# Altium footprint library TSOP (0.4mm Pitch).PcbLib: 16 footprints
Each footprint in its own frame and in the unit in brackets; x right, y up, seen from the top. Pads: shape width x height; smd on the part's side, far side on the other; paste and mask are expansions set on the pad; w line width, h text height; cw(c..) or ccw(c..) is an arc to the next point about the centre after c.
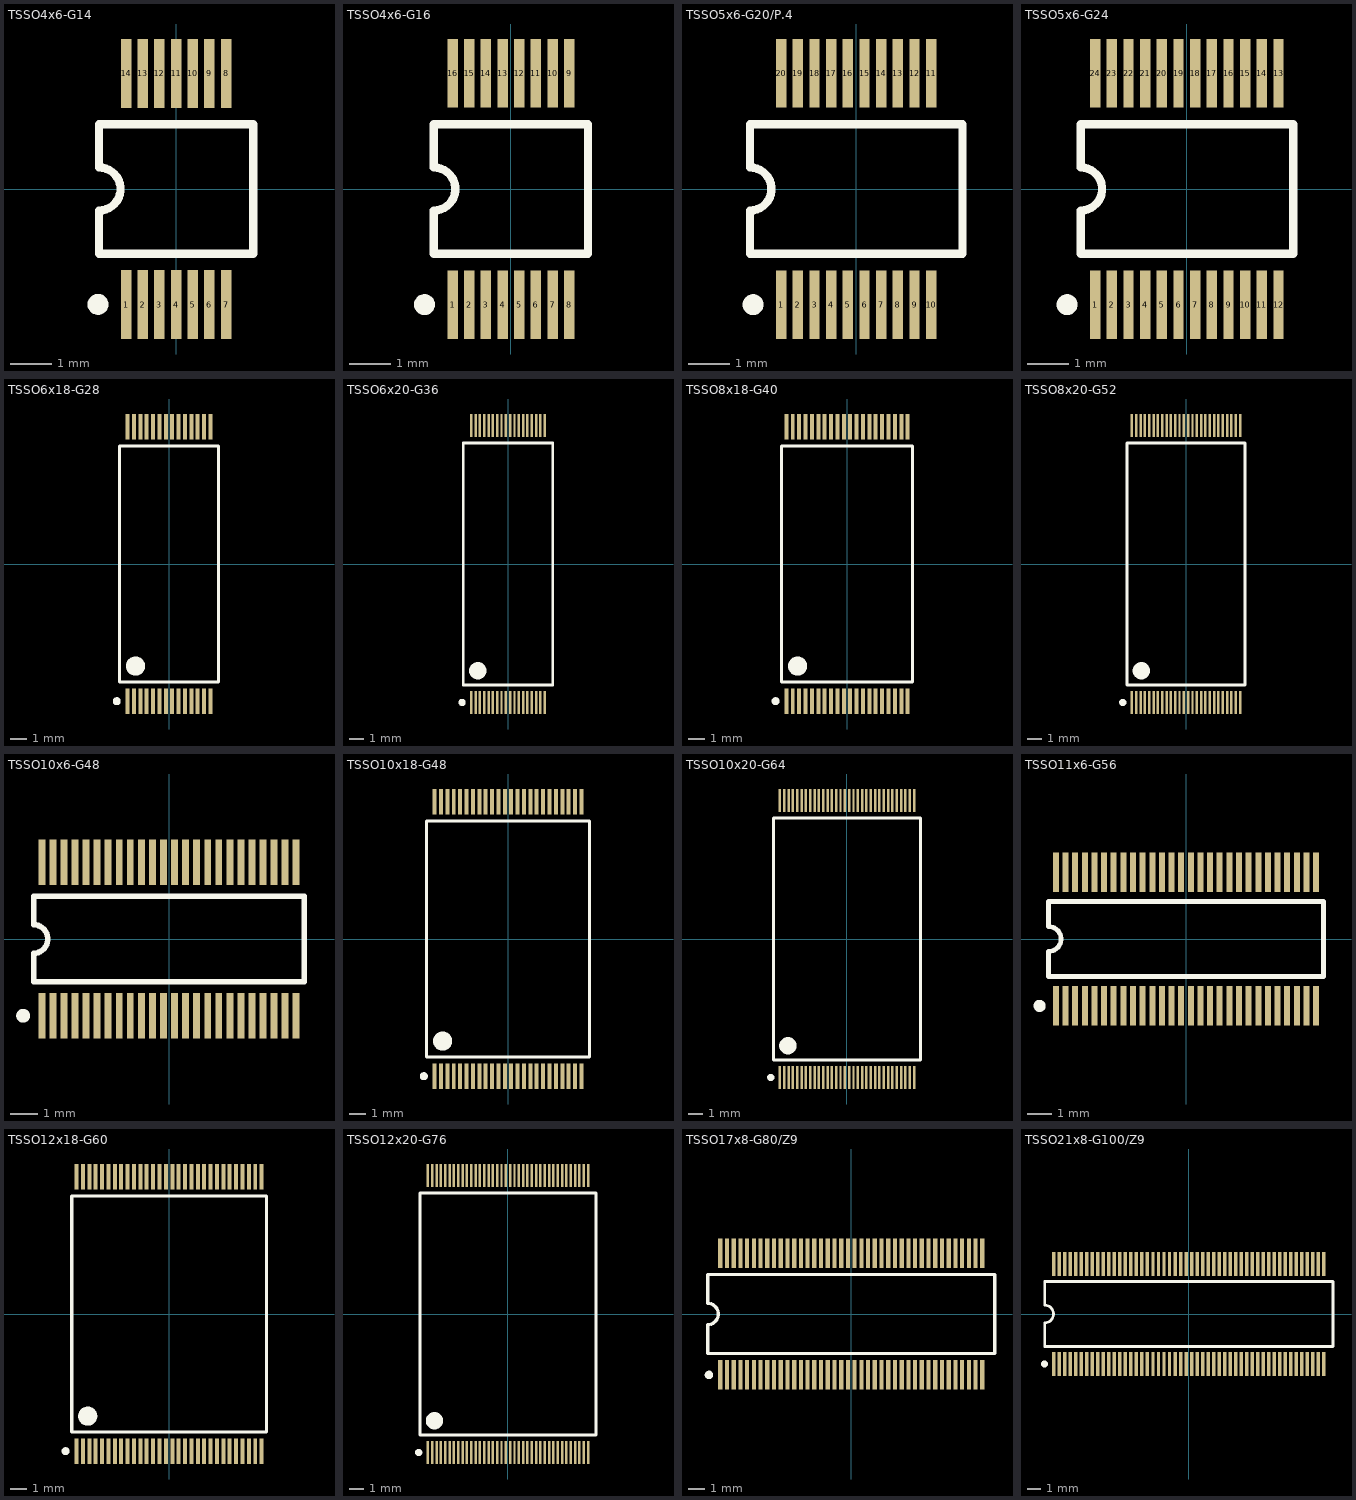
[diagram p0: the footprints below, top view; thin cyan lines are the x and y axes]

## TSSO4x6-G14 [mm] "Shrink Small Outline; 14 Leads; Body Width 4.4 mm; Pitch 0.4 mm"
height 1.2
pads (14):
  rect 0.25x1.65 smd: 1(-1.2,-2.775) 2(-0.8,-2.775) 3(-0.4,-2.775) 4(0,-2.775) 5(0.4,-2.775) 6(0.8,-2.775) 7(1.2,-2.775) 8(1.2,2.775) 9(0.8,2.775) 10(0.4,2.775) 11(0,2.775) 12(-0.4,2.775) 13(-0.8,2.775) 14(-1.2,2.775)
Top Overlay:
  circle w0.25: c-1.875,-2.769 r0.125
  lines w0.2: -1.85,-1.55 -1.85,-0.517 ccw(c-1.85,0) -1.85,0.517 -1.85,1.55 1.85,1.55 1.85,-1.55 -1.85,-1.55

## TSSO4x6-G16 [mm] "Shrink Small Outline; 16 Leads; Body Width 4.4 mm; Pitch 0.4 mm"
height 1.2
pads (16):
  rect 0.25x1.65 smd: 1(-1.4,-2.775) 2(-1,-2.775) 3(-0.6,-2.775) 4(-0.2,-2.775) 5(0.2,-2.775) 6(0.6,-2.775) 7(1,-2.775) 8(1.4,-2.775) 9(1.4,2.775) 10(1,2.775) 11(0.6,2.775) 12(0.2,2.775) 13(-0.2,2.775) 14(-0.6,2.775) 15(-1,2.775) 16(-1.4,2.775)
Top Overlay:
  circle w0.25: c-2.075,-2.775 r0.125
  lines w0.2: -1.85,-1.55 -1.85,-0.517 ccw(c-1.85,0) -1.85,0.517 -1.85,1.55 1.85,1.55 1.85,-1.55 -1.85,-1.55

## TSSO5x6-G20/P.4 [mm] "Shrink Small Outline; 20 Leads; Body Width 4.4 mm; Pitch 0.4 mm"
height 1.2
pads (20):
  rect 0.25x1.65 smd: 1(-1.8,-2.775) 2(-1.4,-2.775) 3(-1,-2.775) 4(-0.6,-2.775) 5(-0.2,-2.775) 6(0.2,-2.775) 7(0.6,-2.775) 8(1,-2.775) 9(1.4,-2.775) 10(1.8,-2.775) 11(1.8,2.775) 12(1.4,2.775) 13(1,2.775) 14(0.6,2.775) 15(0.2,2.775) 16(-0.2,2.775) 17(-0.6,2.775) 18(-1,2.775) 19(-1.4,2.775) 20(-1.8,2.775)
Top Overlay:
  circle w0.25: c-2.475,-2.775 r0.125
  lines w0.2: -2.55,-1.55 -2.55,-0.517 ccw(c-2.55,0) -2.55,0.517 -2.55,1.55 2.55,1.55 2.55,-1.55 -2.55,-1.55

## TSSO5x6-G24 [mm] "Shrink Small Outline; 24 Leads; Body Width 4.4 mm; Pitch 0.4 mm"
height 1.2
pads (24):
  rect 0.25x1.65 smd: 1(-2.2,-2.775) 2(-1.8,-2.775) 3(-1.4,-2.775) 4(-1,-2.775) 5(-0.6,-2.775) 6(-0.2,-2.775) 7(0.2,-2.775) 8(0.6,-2.775) 9(1,-2.775) 10(1.4,-2.775) 11(1.8,-2.775) 12(2.2,-2.775) 13(2.2,2.775) 14(1.8,2.775) 15(1.4,2.775) 16(1,2.775) 17(0.6,2.775) 18(0.2,2.775) 19(-0.2,2.775) 20(-0.6,2.775) 21(-1,2.775) 22(-1.4,2.775) 23(-1.8,2.775) 24(-2.2,2.775)
Top Overlay:
  circle w0.25: c-2.875,-2.775 r0.125
  lines w0.2: -2.55,-1.55 2.55,-1.55 2.55,1.55 -2.55,1.55 -2.55,0.517 cw(c-2.55,0) -2.55,-0.517 -2.55,-1.55

## TSSO6x18-G28 [mm] "Shrink Small Outline; 28 Leads; Body Width 16.4 mm; Pitch 0.4 mm"
height 1.27
pads (28):
  rect 0.25x1.6 smd: 1(-2.6,-8.6) 2(-2.2,-8.6) 3(-1.8,-8.6) 4(-1.4,-8.6) 5(-1,-8.6) 6(-0.6,-8.6) 7(-0.2,-8.6) 8(0.2,-8.6) 9(0.6,-8.6) 10(1,-8.6) 11(1.4,-8.6) 12(1.8,-8.6) 13(2.2,-8.6) 14(2.6,-8.6) 15(2.6,8.6) 16(2.2,8.6) 17(1.8,8.6) 18(1.4,8.6) 19(1,8.6) 20(0.6,8.6) 21(0.2,8.6) 22(-0.2,8.6) 23(-0.6,8.6) 24(-1,8.6) 25(-1.4,8.6) 26(-1.8,8.6) 27(-2.2,8.6) 28(-2.6,8.6)
Top Overlay:
  circle w0.25: c-3.275,-8.6 r0.125
  circle w0.6: c-2.1,-6.4 r0.3
  lines w0.2: -3.1,-7.4 -3.1,-0.635 -3.1,7.4 3.1,7.4 3.1,-7.4 -3.1,-7.4

## TSSO6x20-G36 [mm] "Shrink Small Outline; 36 Leads; Body Width 18.4 mm; Pitch 0.3 mm"
height 1.27
pads (36):
  rect 0.17x1.6 smd: 1(-2.55,-9.6) 2(-2.25,-9.6) 3(-1.95,-9.6) 4(-1.65,-9.6) 5(-1.35,-9.6) 6(-1.05,-9.6) 7(-0.75,-9.6) 8(-0.45,-9.6) 9(-0.15,-9.6) 10(0.15,-9.6) 11(0.45,-9.6) 12(0.75,-9.6) 13(1.05,-9.6) 14(1.35,-9.6) 15(1.65,-9.6) 16(1.95,-9.6) 17(2.25,-9.6) 18(2.55,-9.6) 19(2.55,9.6) 20(2.25,9.6) 21(1.95,9.6) 22(1.65,9.6) 23(1.35,9.6) 24(1.05,9.6) 25(0.75,9.6) 26(0.45,9.6) 27(0.15,9.6) 28(-0.15,9.6) 29(-0.45,9.6) 30(-0.75,9.6) 31(-1.05,9.6) 32(-1.35,9.6) 33(-1.65,9.6) 34(-1.95,9.6) 35(-2.25,9.6) 36(-2.55,9.6)
Top Overlay:
  circle w0.6: c-2.1,-7.4 r0.3
  circle w0.25: c-3.185,-9.6 r0.125
  lines w0.2: -3.1,-8.4 3.1,-8.4 3.1,8.4 -3.1,8.4 -3.1,-0.635 -3.1,-8.4

## TSSO8x18-G40 [mm] "Shrink Small Outline; 40 Leads; Body Width 16.4 mm; Pitch 0.4 mm"
height 1.27
pads (40):
  rect 0.25x1.6 smd: 1(-3.8,-8.6) 2(-3.4,-8.6) 3(-3,-8.6) 4(-2.6,-8.6) 5(-2.2,-8.6) 6(-1.8,-8.6) 7(-1.4,-8.6) 8(-1,-8.6) 9(-0.6,-8.6) 10(-0.2,-8.6) 11(0.2,-8.6) 12(0.6,-8.6) 13(1,-8.6) 14(1.4,-8.6) 15(1.8,-8.6) 16(2.2,-8.6) 17(2.6,-8.6) 18(3,-8.6) 19(3.4,-8.6) 20(3.8,-8.6) 21(3.8,8.6) 22(3.4,8.6) 23(3,8.6) 24(2.6,8.6) 25(2.2,8.6) 26(1.8,8.6) 27(1.4,8.6) 28(1,8.6) 29(0.6,8.6) 30(0.2,8.6) 31(-0.2,8.6) 32(-0.6,8.6) 33(-1,8.6) 34(-1.4,8.6) 35(-1.8,8.6) 36(-2.2,8.6) 37(-2.6,8.6) 38(-3,8.6) 39(-3.4,8.6) 40(-3.8,8.6)
Top Overlay:
  circle w0.6: c-3.1,-6.4 r0.3
  circle w0.25: c-4.475,-8.6 r0.125
  lines w0.2: -4.1,-7.4 4.1,-7.4 4.1,7.4 -4.1,7.4 -4.1,-0.635 -4.1,-7.4

## TSSO8x20-G52 [mm] "Shrink Small Outline; 52 Leads; Body Width 18.4 mm; Pitch 0.3 mm"
height 1.27
pads (52):
  rect 0.17x1.6 smd: 1(-3.75,-9.6) 2(-3.45,-9.6) 3(-3.15,-9.6) 4(-2.85,-9.6) 5(-2.55,-9.6) 6(-2.25,-9.6) 7(-1.95,-9.6) 8(-1.65,-9.6) 9(-1.35,-9.6) 10(-1.05,-9.6) 11(-0.75,-9.6) 12(-0.45,-9.6) 13(-0.15,-9.6) 14(0.15,-9.6) 15(0.45,-9.6) 16(0.75,-9.6) 17(1.05,-9.6) 18(1.35,-9.6) 19(1.65,-9.6) 20(1.95,-9.6) 21(2.25,-9.6) 22(2.55,-9.6) 23(2.85,-9.6) 24(3.15,-9.6) 25(3.45,-9.6) 26(3.75,-9.6) 27(3.75,9.6) 28(3.45,9.6) 29(3.15,9.6) 30(2.85,9.6) 31(2.55,9.6) 32(2.25,9.6) 33(1.95,9.6) 34(1.65,9.6) 35(1.35,9.6) 36(1.05,9.6) 37(0.75,9.6) 38(0.45,9.6) 39(0.15,9.6) 40(-0.15,9.6) 41(-0.45,9.6) 42(-0.75,9.6) 43(-1.05,9.6) 44(-1.35,9.6) 45(-1.65,9.6) 46(-1.95,9.6) 47(-2.25,9.6) 48(-2.55,9.6) 49(-2.85,9.6) 50(-3.15,9.6) 51(-3.45,9.6) 52(-3.75,9.6)
Top Overlay:
  circle w0.25: c-4.385,-9.6 r0.125
  circle w0.6: c-3.1,-7.4 r0.3
  lines w0.2: -4.1,-8.4 -4.1,-0.635 -4.1,8.4 4.1,8.4 4.1,-8.4 -4.1,-8.4

## TSSO10x6-G48 [mm] "Shrink Small Outline; 48 Leads; Body Width 4.4 mm; Pitch 0.4 mm"
height 1.2
pads (48):
  rect 0.25x1.65 smd: 1(-4.6,-2.775) 2(-4.2,-2.775) 3(-3.8,-2.775) 4(-3.4,-2.775) 5(-3,-2.775) 6(-2.6,-2.775) 7(-2.2,-2.775) 8(-1.8,-2.775) 9(-1.4,-2.775) 10(-1,-2.775) 11(-0.6,-2.775) 12(-0.2,-2.775) 13(0.2,-2.775) 14(0.6,-2.775) 15(1,-2.775) 16(1.4,-2.775) 17(1.8,-2.775) 18(2.2,-2.775) 19(2.6,-2.775) 20(3,-2.775) 21(3.4,-2.775) 22(3.8,-2.775) 23(4.2,-2.775) 24(4.6,-2.775) 25(4.6,2.775) 26(4.2,2.775) 27(3.8,2.775) 28(3.4,2.775) 29(3,2.775) 30(2.6,2.775) 31(2.2,2.775) 32(1.8,2.775) 33(1.4,2.775) 34(1,2.775) 35(0.6,2.775) 36(0.2,2.775) 37(-0.2,2.775) 38(-0.6,2.775) 39(-1,2.775) 40(-1.4,2.775) 41(-1.8,2.775) 42(-2.2,2.775) 43(-2.6,2.775) 44(-3,2.775) 45(-3.4,2.775) 46(-3.8,2.775) 47(-4.2,2.775) 48(-4.6,2.775)
Top Overlay:
  circle w0.25: c-5.275,-2.775 r0.125
  lines w0.2: -4.9,-1.55 4.9,-1.55 4.9,1.55 -4.9,1.55 -4.9,0.517 cw(c-4.9,0) -4.9,-0.517 -4.9,-1.55

## TSSO10x18-G48 [mm] "Shrink Small Outline; 48 Leads; Body Width 16.4 mm; Pitch 0.4 mm"
height 1.27
pads (48):
  rect 0.25x1.6 smd: 1(-4.6,-8.6) 2(-4.2,-8.6) 3(-3.8,-8.6) 4(-3.4,-8.6) 5(-3,-8.6) 6(-2.6,-8.6) 7(-2.2,-8.6) 8(-1.8,-8.6) 9(-1.4,-8.6) 10(-1,-8.6) 11(-0.6,-8.6) 12(-0.2,-8.6) 13(0.2,-8.6) 14(0.6,-8.6) 15(1,-8.6) 16(1.4,-8.6) 17(1.8,-8.6) 18(2.2,-8.6) 19(2.6,-8.6) 20(3,-8.6) 21(3.4,-8.6) 22(3.8,-8.6) 23(4.2,-8.6) 24(4.6,-8.6) 25(4.6,8.6) 26(4.2,8.6) 27(3.8,8.6) 28(3.4,8.6) 29(3,8.6) 30(2.6,8.6) 31(2.2,8.6) 32(1.8,8.6) 33(1.4,8.6) 34(1,8.6) 35(0.6,8.6) 36(0.2,8.6) 37(-0.2,8.6) 38(-0.6,8.6) 39(-1,8.6) 40(-1.4,8.6) 41(-1.8,8.6) 42(-2.2,8.6) 43(-2.6,8.6) 44(-3,8.6) 45(-3.4,8.6) 46(-3.8,8.6) 47(-4.2,8.6) 48(-4.6,8.6)
Top Overlay:
  circle w0.6: c-4.1,-6.4 r0.3
  circle w0.25: c-5.275,-8.6 r0.125
  lines w0.2: -5.1,-7.4 5.1,-7.4 5.1,7.4 -5.1,7.4 -5.1,-0.635 -5.1,-7.4

## TSSO10x20-G64 [mm] "Shrink Small Outline; 64 Leads; Body Width 18.4 mm; Pitch 0.3 mm"
height 1.27
pads (64):
  rect 0.17x1.6 smd: 1(-4.65,-9.6) 2(-4.35,-9.6) 3(-4.05,-9.6) 4(-3.75,-9.6) 5(-3.45,-9.6) 6(-3.15,-9.6) 7(-2.85,-9.6) 8(-2.55,-9.6) 9(-2.25,-9.6) 10(-1.95,-9.6) 11(-1.65,-9.6) 12(-1.35,-9.6) 13(-1.05,-9.6) 14(-0.75,-9.6) 15(-0.45,-9.6) 16(-0.15,-9.6) 17(0.15,-9.6) 18(0.45,-9.6) 19(0.75,-9.6) 20(1.05,-9.6) 21(1.35,-9.6) 22(1.65,-9.6) 23(1.95,-9.6) 24(2.25,-9.6) 25(2.55,-9.6) 26(2.85,-9.6) 27(3.15,-9.6) 28(3.45,-9.6) 29(3.75,-9.6) 30(4.05,-9.6) 31(4.35,-9.6) 32(4.65,-9.6) 33(4.65,9.6) 34(4.35,9.6) 35(4.05,9.6) 36(3.75,9.6) 37(3.45,9.6) 38(3.15,9.6) 39(2.85,9.6) 40(2.55,9.6) 41(2.25,9.6) 42(1.95,9.6) 43(1.65,9.6) 44(1.35,9.6) 45(1.05,9.6) 46(0.75,9.6) 47(0.45,9.6) 48(0.15,9.6) 49(-0.15,9.6) 50(-0.45,9.6) 51(-0.75,9.6) 52(-1.05,9.6) 53(-1.35,9.6) 54(-1.65,9.6) 55(-1.95,9.6) 56(-2.25,9.6) 57(-2.55,9.6) 58(-2.85,9.6) 59(-3.15,9.6) 60(-3.45,9.6) 61(-3.75,9.6) 62(-4.05,9.6) 63(-4.35,9.6) 64(-4.65,9.6)
Top Overlay:
  circle w0.6: c-4.1,-7.4 r0.3
  circle w0.25: c-5.285,-9.6 r0.125
  lines w0.2: -5.1,-8.4 5.1,-8.4 5.1,8.4 -5.1,8.4 -5.1,-0.635 -5.1,-8.4

## TSSO11x6-G56 [mm] "Shrink Small Outline; 56 Leads; Body Width 4.4 mm; Pitch 0.4 mm"
height 1.2
pads (56):
  rect 0.25x1.65 smd: 1(-5.4,-2.775) 2(-5,-2.775) 3(-4.6,-2.775) 4(-4.2,-2.775) 5(-3.8,-2.775) 6(-3.4,-2.775) 7(-3,-2.775) 8(-2.6,-2.775) 9(-2.2,-2.775) 10(-1.8,-2.775) 11(-1.4,-2.775) 12(-1,-2.775) 13(-0.6,-2.775) 14(-0.2,-2.775) 15(0.2,-2.775) 16(0.6,-2.775) 17(1,-2.775) 18(1.4,-2.775) 19(1.8,-2.775) 20(2.2,-2.775) 21(2.6,-2.775) 22(3,-2.775) 23(3.4,-2.775) 24(3.8,-2.775) 25(4.2,-2.775) 26(4.6,-2.775) 27(5,-2.775) 28(5.4,-2.775) 29(5.4,2.775) 30(5,2.775) 31(4.6,2.775) 32(4.2,2.775) 33(3.8,2.775) 34(3.4,2.775) 35(3,2.775) 36(2.6,2.775) 37(2.2,2.775) 38(1.8,2.775) 39(1.4,2.775) 40(1,2.775) 41(0.6,2.775) 42(0.2,2.775) 43(-0.2,2.775) 44(-0.6,2.775) 45(-1,2.775) 46(-1.4,2.775) 47(-1.8,2.775) 48(-2.2,2.775) 49(-2.6,2.775) 50(-3,2.775) 51(-3.4,2.775) 52(-3.8,2.775) 53(-4.2,2.775) 54(-4.6,2.775) 55(-5,2.775) 56(-5.4,2.775)
Top Overlay:
  circle w0.25: c-6.075,-2.775 r0.125
  lines w0.2: -5.7,-1.55 5.7,-1.55 5.7,1.55 -5.7,1.55 -5.7,0.517 cw(c-5.7,0) -5.7,-0.517 -5.7,-1.55

## TSSO12x18-G60 [mm] "Shrink Small Outline; 60 Leads; Body Width 16.4 mm; Pitch 0.4 mm"
height 1.27
pads (60):
  rect 0.25x1.6 smd: 1(-5.8,-8.6) 2(-5.4,-8.6) 3(-5,-8.6) 4(-4.6,-8.6) 5(-4.2,-8.6) 6(-3.8,-8.6) 7(-3.4,-8.6) 8(-3,-8.6) 9(-2.6,-8.6) 10(-2.2,-8.6) 11(-1.8,-8.6) 12(-1.4,-8.6) 13(-1,-8.6) 14(-0.6,-8.6) 15(-0.2,-8.6) 16(0.2,-8.6) 17(0.6,-8.6) 18(1,-8.6) 19(1.4,-8.6) 20(1.8,-8.6) 21(2.2,-8.6) 22(2.6,-8.6) 23(3,-8.6) 24(3.4,-8.6) 25(3.8,-8.6) 26(4.2,-8.6) 27(4.6,-8.6) 28(5,-8.6) 29(5.4,-8.6) 30(5.8,-8.6) 31(5.8,8.6) 32(5.4,8.6) 33(5,8.6) 34(4.6,8.6) 35(4.2,8.6) 36(3.8,8.6) 37(3.4,8.6) 38(3,8.6) 39(2.6,8.6) 40(2.2,8.6) 41(1.8,8.6) 42(1.4,8.6) 43(1,8.6) 44(0.6,8.6) 45(0.2,8.6) 46(-0.2,8.6) 47(-0.6,8.6) 48(-1,8.6) 49(-1.4,8.6) 50(-1.8,8.6) 51(-2.2,8.6) 52(-2.6,8.6) 53(-3,8.6) 54(-3.4,8.6) 55(-3.8,8.6) 56(-4.2,8.6) 57(-4.6,8.6) 58(-5,8.6) 59(-5.4,8.6) 60(-5.8,8.6)
Top Overlay:
  circle w0.6: c-5.1,-6.4 r0.3
  circle w0.25: c-6.485,-8.6 r0.125
  lines w0.2: -6.1,-7.4 6.1,-7.4 6.1,7.4 -6.1,7.4 -6.1,-0.635 -6.1,-7.4

## TSSO12x20-G76 [mm] "Shrink Small Outline; 76 Leads; Body Width 18.4 mm; Pitch 0.3 mm"
height 1.27
pads (76):
  rect 0.17x1.6 smd: 1(-5.55,-9.6) 2(-5.25,-9.6) 3(-4.95,-9.6) 4(-4.65,-9.6) 5(-4.35,-9.6) 6(-4.05,-9.6) 7(-3.75,-9.6) 8(-3.45,-9.6) 9(-3.15,-9.6) 10(-2.85,-9.6) 11(-2.55,-9.6) 12(-2.25,-9.6) 13(-1.95,-9.6) 14(-1.65,-9.6) 15(-1.35,-9.6) 16(-1.05,-9.6) 17(-0.75,-9.6) 18(-0.45,-9.6) 19(-0.15,-9.6) 20(0.15,-9.6) 21(0.45,-9.6) 22(0.75,-9.6) 23(1.05,-9.6) 24(1.35,-9.6) 25(1.65,-9.6) 26(1.95,-9.6) 27(2.25,-9.6) 28(2.55,-9.6) 29(2.85,-9.6) 30(3.15,-9.6) 31(3.45,-9.6) 32(3.75,-9.6) 33(4.05,-9.6) 34(4.35,-9.6) 35(4.65,-9.6) 36(4.95,-9.6) 37(5.25,-9.6) 38(5.55,-9.6) 39(5.55,9.6) 40(5.25,9.6) 41(4.95,9.6) 42(4.65,9.6) 43(4.35,9.6) 44(4.05,9.6) 45(3.75,9.6) 46(3.45,9.6) 47(3.15,9.6) 48(2.85,9.6) 49(2.55,9.6) 50(2.25,9.6) 51(1.95,9.6) 52(1.65,9.6) 53(1.35,9.6) 54(1.05,9.6) 55(0.75,9.6) 56(0.45,9.6) 57(0.15,9.6) 58(-0.15,9.6) 59(-0.45,9.6) 60(-0.75,9.6) 61(-1.05,9.6) 62(-1.35,9.6) 63(-1.65,9.6) 64(-1.95,9.6) 65(-2.25,9.6) 66(-2.55,9.6) 67(-2.85,9.6) 68(-3.15,9.6) 69(-3.45,9.6) 70(-3.75,9.6) 71(-4.05,9.6) 72(-4.35,9.6) 73(-4.65,9.6) 74(-4.95,9.6) 75(-5.25,9.6) 76(-5.55,9.6)
Top Overlay:
  circle w0.25: c-6.195,-9.6 r0.125
  circle w0.6: c-5.1,-7.4 r0.3
  lines w0.2: -6.1,-8.4 -6.1,-0.635 -6.1,8.4 6.1,8.4 6.1,-8.4 -6.1,-8.4

## TSSO17x8-G80/Z9 [mm] "Shrink Small Outline; 80 Leads; Body Width 6.1 mm; Pitch 0.4 mm"
height 1.2
pads (80):
  rect 0.25x1.75 smd: 1(-7.8,-3.625) 2(-7.4,-3.625) 3(-7,-3.625) 4(-6.6,-3.625) 5(-6.2,-3.625) 6(-5.8,-3.625) 7(-5.4,-3.625) 8(-5,-3.625) 9(-4.6,-3.625) 10(-4.2,-3.625) 11(-3.8,-3.625) 12(-3.4,-3.625) 13(-3,-3.625) 14(-2.6,-3.625) 15(-2.2,-3.625) 16(-1.8,-3.625) 17(-1.4,-3.625) 18(-1,-3.625) 19(-0.6,-3.625) 20(-0.2,-3.625) 21(0.2,-3.625) 22(0.6,-3.625) 23(1,-3.625) 24(1.4,-3.625) 25(1.8,-3.625) 26(2.2,-3.625) 27(2.6,-3.625) 28(3,-3.625) 29(3.4,-3.625) 30(3.8,-3.625) 31(4.2,-3.625) 32(4.6,-3.625) 33(5,-3.625) 34(5.4,-3.625) 35(5.8,-3.625) 36(6.2,-3.625) 37(6.6,-3.625) 38(7,-3.625) 39(7.4,-3.625) 40(7.8,-3.625) 41(7.8,3.625) 42(7.4,3.625) 43(7,3.625) 44(6.6,3.625) 45(6.2,3.625) 46(5.8,3.625) 47(5.4,3.625) 48(5,3.625) 49(4.6,3.625) 50(4.2,3.625) 51(3.8,3.625) 52(3.4,3.625) 53(3,3.625) 54(2.6,3.625) 55(2.2,3.625) 56(1.8,3.625) 57(1.4,3.625) 58(1,3.625) 59(0.6,3.625) 60(0.2,3.625) 61(-0.2,3.625) 62(-0.6,3.625) 63(-1,3.625) 64(-1.4,3.625) 65(-1.8,3.625) 66(-2.2,3.625) 67(-2.6,3.625) 68(-3,3.625) 69(-3.4,3.625) 70(-3.8,3.625) 71(-4.2,3.625) 72(-4.6,3.625) 73(-5,3.625) 74(-5.4,3.625) 75(-5.8,3.625) 76(-6.2,3.625) 77(-6.6,3.625) 78(-7,3.625) 79(-7.4,3.625) 80(-7.8,3.625)
Top Overlay:
  circle w0.25: c-8.475,-3.625 r0.125
  lines w0.2: -8.55,-2.35 -8.55,-0.635 ccw(c-8.55,0) -8.55,0.635 -8.55,2.35 8.55,2.35 8.55,-2.35 -8.55,-2.35

## TSSO21x8-G100/Z9 [mm] "Shrink Small Outline; 100 Leads; Body Width 6.1 mm; Pitch 0.4 mm"
height 1.2
pads (100):
  rect 0.25x1.75 smd: 1(-9.8,-3.625) 2(-9.4,-3.625) 3(-9,-3.625) 4(-8.6,-3.625) 5(-8.2,-3.625) 6(-7.8,-3.625) 7(-7.4,-3.625) 8(-7,-3.625) 9(-6.6,-3.625) 10(-6.2,-3.625) 11(-5.8,-3.625) 12(-5.4,-3.625) 13(-5,-3.625) 14(-4.6,-3.625) 15(-4.2,-3.625) 16(-3.8,-3.625) 17(-3.4,-3.625) 18(-3,-3.625) 19(-2.6,-3.625) 20(-2.2,-3.625) 21(-1.8,-3.625) 22(-1.4,-3.625) 23(-1,-3.625) 24(-0.6,-3.625) 25(-0.2,-3.625) 26(0.2,-3.625) 27(0.6,-3.625) 28(1,-3.625) 29(1.4,-3.625) 30(1.8,-3.625) 31(2.2,-3.625) 32(2.6,-3.625) 33(3,-3.625) 34(3.4,-3.625) 35(3.8,-3.625) 36(4.2,-3.625) 37(4.6,-3.625) 38(5,-3.625) 39(5.4,-3.625) 40(5.8,-3.625) 41(6.2,-3.625) 42(6.6,-3.625) 43(7,-3.625) 44(7.4,-3.625) 45(7.8,-3.625) 46(8.2,-3.625) 47(8.6,-3.625) 48(9,-3.625) 49(9.4,-3.625) 50(9.8,-3.625) 51(9.8,3.625) 52(9.4,3.625) 53(9,3.625) 54(8.6,3.625) 55(8.2,3.625) 56(7.8,3.625) 57(7.4,3.625) 58(7,3.625) 59(6.6,3.625) 60(6.2,3.625) 61(5.8,3.625) 62(5.4,3.625) 63(5,3.625) 64(4.6,3.625) 65(4.2,3.625) 66(3.8,3.625) 67(3.4,3.625) 68(3,3.625) 69(2.6,3.625) 70(2.2,3.625) 71(1.8,3.625) 72(1.4,3.625) 73(1,3.625) 74(0.6,3.625) 75(0.2,3.625) 76(-0.2,3.625) 77(-0.6,3.625) 78(-1,3.625) 79(-1.4,3.625) 80(-1.8,3.625) 81(-2.2,3.625) 82(-2.6,3.625) 83(-3,3.625) 84(-3.4,3.625) 85(-3.8,3.625) 86(-4.2,3.625) 87(-4.6,3.625) 88(-5,3.625) 89(-5.4,3.625) 90(-5.8,3.625) 91(-6.2,3.625) 92(-6.6,3.625) 93(-7,3.625) 94(-7.4,3.625) 95(-7.8,3.625) 96(-8.2,3.625) 97(-8.6,3.625) 98(-9,3.625) 99(-9.4,3.625) 100(-9.8,3.625)
Top Overlay:
  circle w0.25: c-10.475,-3.625 r0.125
  lines w0.2: -10.45,-2.35 -10.45,-0.635 ccw(c-10.45,0) -10.45,0.635 -10.45,2.35 10.45,2.35 10.45,-2.35 -10.45,-2.35